# Altium footprint library PCIEtoMXM.PcbLib: 1 footprints
Each footprint in its own frame and in the unit in brackets; x right, y up, seen from the top. Pads: shape width x height; smd on the part's side, far side on the other; paste and mask are expansions set on the pad; w line width, h text height; cw(c..) or ccw(c..) is an arc to the next point about the centre after c.
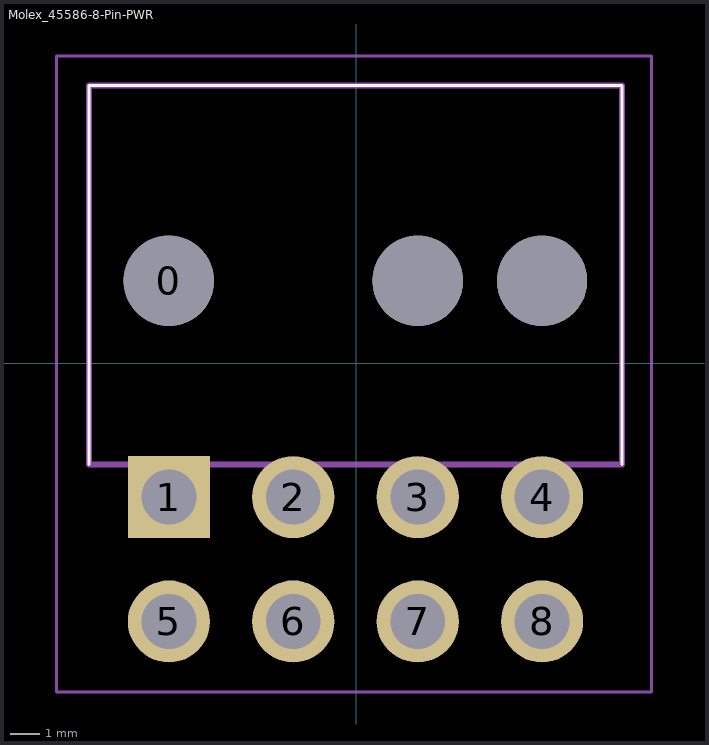
[diagram p0: the footprint, top view; thin cyan lines are the x and y axes]

## Molex_45586-8-Pin-PWR [mm]
pads (11):
  round 3.05 hole 3.05: 0(-6.325,2.787) ""(2.075,2.787) ""(6.275,2.787)
  rect 2.775x2.775 hole 1.85: 1(-6.325,-4.513)
  round 2.775 hole 1.85: 2(-2.125,-4.513) 3(2.075,-4.513) 4(6.275,-4.513) 5(-6.325,-8.713) 6(-2.125,-8.713) 7(2.075,-8.713) 8(6.275,-8.713)
F.SilkS:
  lines w0.1: -9.025,-3.413 -9.025,9.387 8.975,9.387 8.975,-3.413
F.CrtYd:
  lines w0.1: -10.125,-11.101 9.975,-11.101 9.975,10.387 -10.125,10.387 -10.125,-11.101
F.Fab:
  lines w0.2: -9.025,-3.413 8.975,-3.413 8.975,9.387 -9.025,9.387 -9.025,-3.413
  text "45586-0005" at -2.159,-1.651 h0.95
3D body "455860005.stp": height 12.2, standoff -2.7, extent -9.411,-9.236 8.989,9.401